# Altium footprint library CELLULAR.PcbLib: 19 footprints (part 2 of 2)
Each footprint in its own frame and in the unit in brackets; x right, y up, seen from the top. Pads: shape width x height; smd on the part's side, far side on the other; paste and mask are expansions set on the pad; w line width, h text height; cw(c..) or ccw(c..) is an arc to the next point about the centre after c.
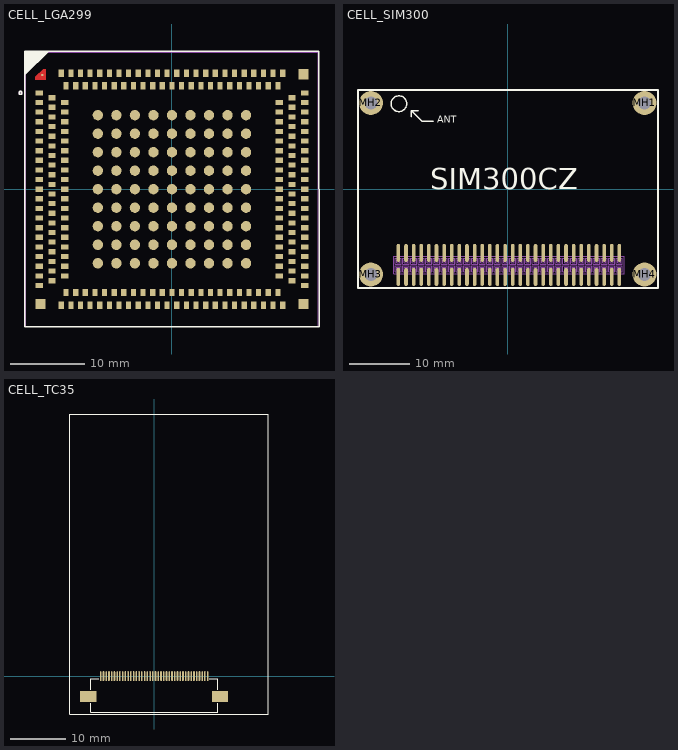
[diagram p1: the footprints below, top view; thin cyan lines are the x and y axes]

## CELL_LGA299 [mm] "LGA-299 39.5x37x2.8mm"
pads (299):
  rect 1x0.7 smd paste-0.05 mask+0.05: 1(-17.9,13) 2(-16.2,12.35) 3(-17.9,11.7) 4(-16.2,11.05) 5(-17.9,10.4) 6(-16.2,9.75) 7(-17.9,9.1) 8(-16.2,8.45) 9(-17.9,7.8) 10(-16.2,7.15) 11(-17.9,6.5) 12(-16.2,5.85) 13(-17.9,5.2) 14(-16.2,4.55) 15(-17.9,3.9) 16(-16.2,3.25) 17(-17.9,2.6) 18(-16.2,1.95) 19(-17.9,1.3) 20(-16.2,0.65) 21(-17.9,0) 22(-16.2,-0.65) 23(-17.9,-1.3) 24(-16.2,-1.95) 25(-17.9,-2.6) 26(-16.2,-3.25) 27(-17.9,-3.9) 28(-16.2,-4.55) 29(-17.9,-5.2) 30(-16.2,-5.85) 31(-17.9,-6.5) 32(-16.2,-7.15) 33(-17.9,-7.8) 34(-16.2,-8.45) 35(-17.9,-9.1) 36(-16.2,-9.75) 37(-17.9,-10.4) 38(-16.2,-11.05) 39(-17.9,-11.7) 40(-16.2,-12.35) 41(-17.9,-13) 89(17.9,-13) 90(16.2,-12.35) 91(17.9,-11.7) 92(16.2,-11.05) 93(17.9,-10.4) 94(16.2,-9.75) 95(17.9,-9.1) 96(16.2,-8.45) 97(17.9,-7.8) 98(16.2,-7.15) 99(17.9,-6.5) 100(16.2,-5.85) 101(17.9,-5.2) 102(16.2,-4.55) 103(17.9,-3.9) 104(16.2,-3.25) 105(17.9,-2.6) 106(16.2,-1.95) 107(17.9,-1.3) 108(16.2,-0.65) 109(17.9,0) 110(16.2,0.65) 111(17.9,1.3) 112(16.2,1.95) 113(17.9,2.6) 114(16.2,3.25) 115(17.9,3.9) 116(16.2,4.55) 117(17.9,5.2) 118(16.2,5.85) 119(17.9,6.5) 120(16.2,7.15) 121(17.9,7.8) 122(16.2,8.45) 123(17.9,9.1) 124(16.2,9.75) 125(17.9,10.4) 126(16.2,11.05) 127(17.9,11.7) 128(16.2,12.35) 129(17.9,13) 177(-14.5,11.7) 178(-14.5,10.4) 179(-14.5,9.1) 180(-14.5,7.8) 181(-14.5,6.5) 182(-14.5,5.2) 183(-14.5,3.9) 184(-14.5,2.6) 185(-14.5,1.3) 186(-14.5,0) 187(-14.5,-1.3) 188(-14.5,-2.6) 189(-14.5,-3.9) 190(-14.5,-5.2) 191(-14.5,-6.5) 192(-14.5,-7.8) 193(-14.5,-9.1) 194(-14.5,-10.4) 195(-14.5,-11.7) 196(14.5,-11.7) 197(14.5,-10.4) 198(14.5,-9.1) 199(14.5,-7.8) 200(14.5,-6.5) 201(14.5,-5.2) 202(14.5,-3.9) 203(14.5,-2.6) 204(14.5,-1.3) 205(14.5,0) 206(14.5,1.3) 207(14.5,2.6) 208(14.5,3.9) 209(14.5,5.2) 210(14.5,6.5) 211(14.5,7.8) 212(14.5,9.1) 213(14.5,10.4) 214(14.5,11.7)
  rect 0.7x1 smd paste-0.05 mask+0.05: 42(-14.95,-15.65) 43(-14.3,-13.95) 44(-13.65,-15.65) 45(-13,-13.95) 46(-12.35,-15.65) 47(-11.7,-13.95) 48(-11.05,-15.65) 49(-10.4,-13.95) 50(-9.75,-15.65) 51(-9.1,-13.95) 52(-8.45,-15.65) 53(-7.8,-13.95) 54(-7.15,-15.65) 55(-6.5,-13.95) 56(-5.85,-15.65) 57(-5.2,-13.95) 58(-4.55,-15.65) 59(-3.9,-13.95) 60(-3.25,-15.65) 61(-2.6,-13.95) 62(-1.95,-15.65) 63(-1.3,-13.95) 64(-0.65,-15.65) 65(0,-13.95) 66(0.65,-15.65) 67(1.3,-13.95) 68(1.95,-15.65) 69(2.6,-13.95) 70(3.25,-15.65) 71(3.9,-13.95) 72(4.55,-15.65) 73(5.2,-13.95) 74(5.85,-15.65) 75(6.5,-13.95) 76(7.15,-15.65) 77(7.8,-13.95) 78(8.45,-15.65) 79(9.1,-13.95) 80(9.75,-15.65) 81(10.4,-13.95) 82(11.05,-15.65) 83(11.7,-13.95) 84(12.35,-15.65) 85(13,-13.95) 86(13.65,-15.65) 87(14.3,-13.95) 88(14.95,-15.65) 130(14.95,15.65) 131(14.3,13.95) 132(13.65,15.65) 133(13,13.95) 134(12.35,15.65) 135(11.7,13.95) 136(11.05,15.65) 137(10.4,13.95) 138(9.75,15.65) 139(9.1,13.95) 140(8.45,15.65) 141(7.8,13.95) 142(7.15,15.65) 143(6.5,13.95) 144(5.85,15.65) 145(5.2,13.95) 146(4.55,15.65) 147(3.9,13.95) 148(3.25,15.65) 149(2.6,13.95) 150(1.95,15.65) 151(1.3,13.95) 152(0.65,15.65) 153(0,13.95) 154(-0.65,15.65) 155(-1.3,13.95) 156(-1.95,15.65) 157(-2.6,13.95) 158(-3.25,15.65) 159(-3.9,13.95) 160(-4.55,15.65) 161(-5.2,13.95) 162(-5.85,15.65) 163(-6.5,13.95) 164(-7.15,15.65) 165(-7.8,13.95) 166(-8.45,15.65) 167(-9.1,13.95) 168(-9.75,15.65) 169(-10.4,13.95) 170(-11.05,15.65) 171(-11.7,13.95) 172(-12.35,15.65) 173(-13,13.95) 174(-13.65,15.65) 175(-14.3,13.95) 176(-14.95,15.65)
  round 1.4 smd paste-0.1 mask+0.05: 215(10,10) 216(10,7.5) 217(10,5) 218(10,2.5) 219(10,0) 220(10,-2.5) 221(10,-5) 222(10,-7.5) 223(10,-10) 224(7.5,10) 225(7.5,7.5) 226(7.5,5) 227(7.5,2.5) 228(7.5,0) 229(7.5,-2.5) 230(7.5,-5) 231(7.5,-7.5) 232(7.5,-10) 233(5,10) 234(5,7.5) 235(5,5) 236(5,2.5) 237(5,0) 238(5,-2.5) 239(5,-5) 240(5,-7.5) 241(5,-10) 242(2.5,10) 243(2.5,7.5) 244(2.5,5) 245(2.5,2.5) 246(2.5,0) 247(2.5,-2.5) 248(2.5,-5) 249(2.5,-7.5) 250(2.5,-10) 251(0,10) 252(0,7.5) 253(0,5) 254(0,2.5) 255(0,0) 256(0,-2.5) 257(0,-5) 258(0,-7.5) 259(0,-10) 260(-2.5,10) 261(-2.5,7.5) 262(-2.5,5) 263(-2.5,2.5) 264(-2.5,0) 265(-2.5,-2.5) 266(-2.5,-5) 267(-2.5,-7.5) 268(-2.5,-10) 269(-5,10) 270(-5,7.5) 271(-5,5) 272(-5,2.5) 273(-5,0) 274(-5,-2.5) 275(-5,-5) 276(-5,-7.5) 277(-5,-10) 278(-7.5,10) 279(-7.5,7.5) 280(-7.5,5) 281(-7.5,2.5) 282(-7.5,0) 283(-7.5,-2.5) 284(-7.5,-5) 285(-7.5,-7.5) 286(-7.5,-10) 287(-10,10) 288(-10,7.5) 289(-10,5) 290(-10,2.5) 291(-10,0) 292(-10,-2.5) 293(-10,-5) 294(-10,-7.5) 295(-10,-10)
  round 0.3 smd paste-1 mask+0: 296(-17.5,15.4)
  rect 1.4x1.4 smd paste-0.1 mask+0.05: 297(-17.75,-15.5) 298(17.75,-15.5) 299(17.75,15.5)
Top Layer:
  region: -17.05,14.8 -18.45,14.8 -18.45,15.15 -17.4,16.2 -17.05,16.2
Top Overlay:
  circle w0.2: c-20.45,13 r0.2
  region: -19.85,18.6 -19.8,18.65 -16.55,18.65 -19.85,15.35
  lines w0.2: -19.85,-18.6 -19.85,18.6 19.85,18.6 19.85,-18.6 -19.85,-18.6
Mechanical 13:
  circle w0.2: c-20.45,13 r0.2
  lines w0.127: -19.75,-18.5 -19.75,18.5 19.75,18.5 19.75,-18.5 -19.75,-18.5
3D body "EG06--3DModel-STEP-269445.STEP": height 3, standoff 0, extent -19.75,-18.5 19.75,18.5

## CELL_SIM300 [mm] "SIM300 34x40mm"
height 1.092
pads (64):
  oval 0.6x3 smd: 1(-18.224,-14.6) 2(-18.224,-10.6) 3(-16.954,-14.6) 4(-16.954,-10.6) 5(-15.684,-14.6) 6(-15.684,-10.6) 7(-14.414,-14.6) 8(-14.414,-10.6) 9(-13.144,-14.6) 10(-13.144,-10.6) 11(-11.874,-14.6) 12(-11.874,-10.6) 13(-10.604,-14.6) 14(-10.604,-10.6) 15(-9.335,-14.6) 16(-9.335,-10.6) 17(-8.064,-14.6) 18(-8.064,-10.6) 19(-6.794,-14.6) 20(-6.794,-10.6) 21(-5.524,-14.6) 22(-5.524,-10.6) 23(-4.255,-14.6) 24(-4.255,-10.6) 25(-2.984,-14.6) 26(-2.984,-10.6) 27(-1.714,-14.6) 28(-1.714,-10.6) 29(-0.445,-14.6) 30(-0.445,-10.6) 31(0.826,-14.6) 32(0.826,-10.6) 33(2.095,-14.6) 34(2.095,-10.6) 35(3.365,-14.6) 36(3.365,-10.6) 37(4.635,-14.6) 38(4.635,-10.6) 39(5.905,-14.6) 40(5.905,-10.6) 41(7.175,-14.6) 42(7.175,-10.6) 43(8.445,-14.6) 44(8.445,-10.6) 45(9.716,-14.6) 46(9.716,-10.6) 47(10.986,-14.6) 48(10.986,-10.6) 49(12.255,-14.6) 50(12.255,-10.6) 51(13.525,-14.6) 52(13.525,-10.6) 53(14.795,-14.6) 54(14.795,-10.6) 55(16.066,-14.6) 56(16.066,-10.6) 57(17.335,-14.6) 58(17.335,-10.6) 59(18.605,-14.6) 60(18.605,-10.6)
  round 4 hole 2.2: MH1(22.796,14.395) MH2(-22.796,14.395) MH3(-22.796,-14.18) MH4(22.796,-14.18)
Top Overlay:
  circle w0.254: c-18.135,14.268 r1.308
  lines w0.254: -16.066,12.109 -16.066,13.125 ; -14.922,13.125 -16.066,13.125 ; -12.383,11.347 -14.287,11.347 -16.066,13.125 ; -24.956,-16.446 25.045,-16.446 25.045,16.554 -24.956,16.554 -24.956,-16.446
  text "SIM300CZ" at -12.89,0.044 h3.56
  text "ANT" at -11.747,11.093 h1.14
Mechanical 1:
  drawing of 484 lines, arcs and shapes, not listed
  text "60" at 19.748,-9.862 h0.76
  text "59" at 19.748,-14.434 h0.76
  text "1" at -20.002,-15.45 h0.76
  text "2" at -20.002,-9.862 h0.76
3D body "User Library-SIM300C.step": height 8.79, standoff -3.05, extent -25.971,-16.488 26.51,16.635

## CELL_TC35 [mm] "TC35i 36x54.5x3.6mm"
pads (42):
  oval 0.3x1.8 smd mask+0.05: 1(9.75,0) 2(9.25,0) 3(8.75,0) 4(8.25,0) 5(7.75,0) 6(7.25,0) 7(6.75,0) 8(6.25,0) 9(5.75,0) 10(5.25,0) 11(4.75,0) 12(4.25,0) 13(3.75,0) 14(3.25,0) 15(2.75,0) 16(2.25,0) 17(1.75,0) 18(1.25,0) 19(0.75,0) 20(0.25,0) 21(-0.25,0) 22(-0.75,0) 23(-1.25,0) 24(-1.75,0) 25(-2.25,0) 26(-2.75,0) 27(-3.25,0) 28(-3.75,0) 29(-4.25,0) 30(-4.75,0) 31(-5.25,0) 32(-5.75,0) 33(-6.25,0) 34(-6.75,0) 35(-7.25,0) 36(-7.75,0) 37(-8.25,0) 38(-8.75,0) 39(-9.25,0) 40(-9.75,0)
  rrect0% 3x2 smd: ""(-12,-3.7) ""(12,-3.7)
Top Overlay:
  lines w0.2: -11.6,-4.9 -11.6,-6.6 11.55,-6.6 ; -11.6,-2.5 -11.6,-0.5 -10.074,-0.5 ; 10.074,-0.5 11.6,-0.5 11.6,-2.5 ; 11.6,-6.6 11.6,-4.9 ; -15.4,-6.9 20.8,-6.9 20.8,47.8 -15.4,47.8 -15.4,-6.9
3D body: height 3, standoff 0.1, extent -11.5,-6.6 11.55,-0.6
3D body "User Library-siemens tc35i module.STEP": height 5.55, standoff 2, extent -15.264,-6.772 20.736,47.728